# EAGLE library part TFT (library general)
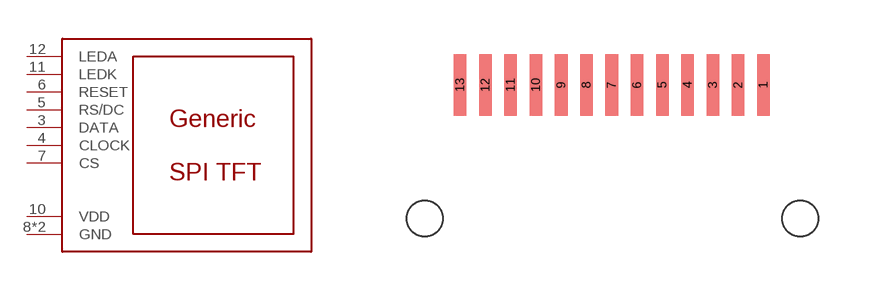
[diagram p4: symbol with the pads of MICROBUILDER_TFT_1.14IN_240X135_WRAPUNDER; footprint MICROBUILDER_TFT_1.14IN_240X135_WRAPUNDER]

Designator prefix -

## TFT  [MICROBUILDER_TFT_1.14IN_240X135_WRAPUNDER]
3  DATA
4  CLOCK  in
5  RS/DC  in
6  RESET  in
7  CS  in
8  GND  pwr
10  VDD  pwr
11  LEDK  in
12  LEDA  in
13  GND  pwr

## Footprint MICROBUILDER_TFT_1.14IN_240X135_WRAPUNDER (pad centres in mm)
smd 0.35 x 1.7: 1 4.24,2.07; 2 3.54,2.07; 3 2.84,2.07; 4 2.14,2.07; 5 1.44,2.07; 6 0.74,2.07; 7 0.04,2.07; 8 -0.66,2.07; 9 -1.36,2.07; 10 -2.06,2.07; 11 -2.76,2.07; 12 -3.46,2.07; 13 -4.16,2.07
hole 1 at -5.14,-1.63
hole 1 at 5.26,-1.63